# Altium footprint library PCB.PCBLIB: 320 footprints (part 19 of 20)
Each footprint in its own frame and in the unit in brackets; x right, y up, seen from the top. Pads: shape width x height; smd on the part's side, far side on the other; paste and mask are expansions set on the pad; w line width, h text height; cw(c..) or ccw(c..) is an arc to the next point about the centre after c.
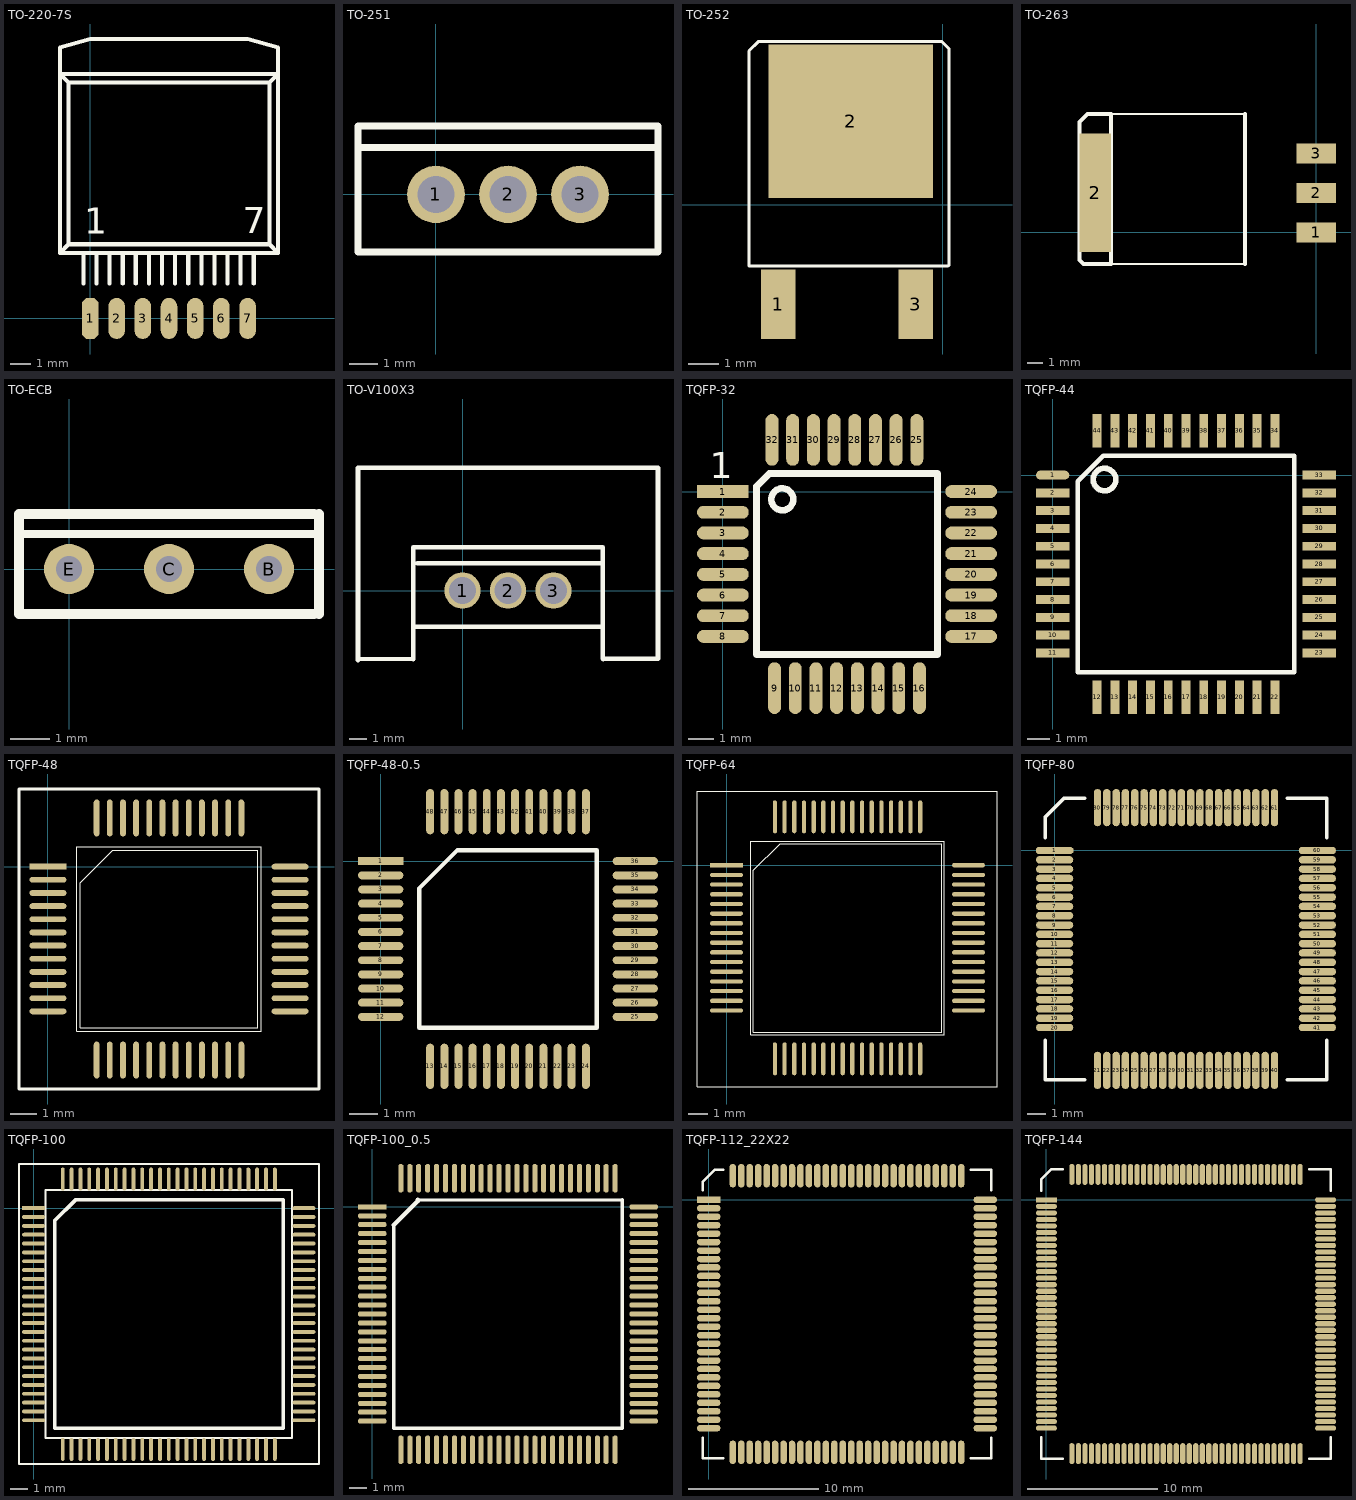
[diagram p18: the footprints below, top view; thin cyan lines are the x and y axes]

## TO-220-7S [mil]
pads (7):
  oct 31.67x78.33 smd: 1(0,0)
  oval 31.67x78.33 smd: 2(50,0) 3(100,0) 4(150,0) 5(200,0) 6(250,0) 7(300,0)
TopOverlay:
  lines w7.87: -13.33,66.93 -13.33,125 ; 11.67,66.93 11.67,125 ; 36.67,66.93 36.67,125 ; 61.67,66.93 61.67,125 ; 86.67,66.93 86.67,125 ; 111.67,66.93 111.67,125 ; 136.67,66.93 136.67,125 ; 161.67,66.93 161.67,125 ; 186.67,66.93 186.67,125 ; 211.67,66.93 211.67,125 ; 236.67,66.93 236.67,125 ; 261.67,66.93 261.67,125 ; 286.67,66.93 286.67,125 ; 311.67,66.93 311.67,125 ; -58.33,125 -41.67,141.67 ; -58.33,125 -58.33,466.67 ; -58.33,125 358.33,125 ; -58.33,466.67 -41.67,450 ; -58.33,466.67 -58.33,516.67 0,533.33 300,533.33 358.33,516.67 358.33,466.67 ; -58.33,466.67 358.33,466.67 ; -41.67,141.67 341.67,141.67 ; -41.67,141.67 -41.67,450 ; -41.67,450 341.67,450 ; 341.67,141.67 358.33,125 ; 341.67,141.67 341.67,450 ; 341.67,450 358.33,466.67 ; 358.33,125 358.33,466.67
  text "7" at 290.27,162.98 h50
  text "1" at -11.5,161.9 h50

## TO-251 [mil]
pads (3):
  round 80 hole 51.18: 1(0,0) 2(100,0) 3(200,0)
TopOverlay:
  lines w10: -103.33,65 305,65 ; -108.33,-80 308.33,-80 308.33,95 -108.33,95 -108.33,-80

## TO-252 [mil]
pads (3):
  rect 45x90.55 smd: 1(-215,-130) 3(-35,-130)
  rect 215x200 smd: 2(-120,109)
TopOverlay:
  lines w4: -253,-80 7,-80 8,-79 8,195 8,204 -1,213 -241,213 -253,201 -253,199 -253,-80

## TO-263 [mil]
pads (4):
  rect 100x50 smd: 1(0,0) 2(0,100) 3(0,200)
  rect 80x300 smd: 2(-560,100)
TopOverlay:
  lines w6: -520,-80 -180,-80 ; -520,300 -180,300
  lines w10: -180,-80 -180,300 ; -600,-70 -590,-80 -520,-80 -520,300 -580,300 -600,280 -600,-60 -600,-70

## TO-ECB [mil]
pads (3):
  round 50 hole 26: B(200,0) C(100,0) E(0,0)
TopOverlay:
  lines w8: -50,35 245,35
  lines w10: -50,-45 -50,55 ; -48.33,-45 245,-45 ; -48.33,55 245,55 ; 250,-45 250,55

## TO-V100X3 [mil]
pads (3):
  round 80 hole 60: 1(0,0) 2(100,0) 3(200,0)
TopOverlay:
  lines w10: -230,-153.33 -230,270 430,270 430,-150 308.33,-150 ; -230,-150 -108.33,-151.67 -108.33,-80 ; -100,60 308.33,60 ; 310,-151.67 308.33,-150 ; -108.33,-80 -108.33,95 308.33,95 308.33,-80 ; -108.33,-80 308.33,-80 ; 308.33,-150 308.33,-80

## TQFP-32 [mm]
pads (32):
  rect 2x0.5 smd: 1(0,0)
  oval 2x0.5 smd: 2(0,-0.8) 3(0,-1.6) 4(0,-2.4) 5(0,-3.2) 6(0,-4) 7(0,-4.8) 8(0,-5.6) 17(9.6,-5.6) 18(9.6,-4.8) 19(9.6,-4) 20(9.6,-3.2) 21(9.6,-2.4) 22(9.6,-1.6) 23(9.6,-0.8) 24(9.6,0)
  oval 0.5x2 smd: 9(2,-7.6) 10(2.8,-7.6) 11(3.6,-7.6) 12(4.4,-7.6) 13(5.2,-7.6) 14(6,-7.6) 15(6.8,-7.6) 16(7.6,-7.6) 25(7.5,2) 26(6.7,2) 27(5.9,2) 28(5.1,2) 29(4.3,2) 30(3.5,2) 31(2.7,2) 32(1.9,2)
TopOverlay:
  circle w0.254: c2.3,-0.3 r0.424
  lines w0.254: 1.3,-6.3 8.3,-6.3 8.3,0.7 1.8,0.7 1.3,0.2 1.3,-6.3
  text "1" at -0.508,0.508 h1.02

## TQFP-44 [mm]
pads (44):
  oval 1.5x0.4 smd: 1(0,0)
  rect 1.5x0.4 smd: 2(0,-0.8) 3(0,-1.6) 4(0,-2.4) 5(0,-3.2) 6(0,-4) 7(0,-4.8) 8(0,-5.6) 9(0,-6.4) 10(0,-7.2) 11(0,-8) 23(12,-8) 24(12,-7.2) 25(12,-6.4) 26(12,-5.6) 27(12,-4.8) 28(12,-4) 29(12,-3.2) 30(12,-2.4) 31(12,-1.6) 32(12,-0.8) 33(12,0)
  rect 0.4x1.5 smd: 12(2,-10) 13(2.8,-10) 14(3.6,-10) 15(4.4,-10) 16(5.2,-10) 17(6,-10) 18(6.8,-10) 19(7.6,-10) 20(8.4,-10) 21(9.2,-10) 22(10,-10) 34(10,2) 35(9.2,2) 36(8.4,2) 37(7.6,2) 38(6.8,2) 39(6,2) 40(5.2,2) 41(4.4,2) 42(3.6,2) 43(2.8,2) 44(2,2)
TopOverlay:
  circle w0.254: c2.332,-0.2 r0.508
  lines w0.2: 1.135,-8.865 10.865,-8.865 10.865,0.865 2.27,0.865 1.135,-0.27 1.135,-8.865

## TQFP-48 [mm]
pads (48):
  rect 1.4x0.22 smd: 1(0,0)
  oval 1.4x0.22 smd: 2(0,-0.5) 3(0,-1) 4(0,-1.5) 5(0,-2) 6(0,-2.5) 7(0,-3) 8(0,-3.5) 9(0,-4) 10(0,-4.5) 11(0,-5) 12(0,-5.5) 25(9.2,-5.5) 26(9.2,-5) 27(9.2,-4.5) 28(9.2,-4) 29(9.2,-3.5) 30(9.2,-3) 31(9.2,-2.5) 32(9.2,-2) 33(9.2,-1.5) 34(9.2,-1) 35(9.2,-0.5) 36(9.2,0)
  oval 0.22x1.4 smd: 13(1.85,-7.35) 14(2.35,-7.35) 15(2.85,-7.35) 16(3.35,-7.35) 17(3.85,-7.35) 18(4.35,-7.35) 19(4.85,-7.35) 20(5.35,-7.35) 21(5.85,-7.35) 22(6.35,-7.35) 23(6.85,-7.35) 24(7.35,-7.35) 37(7.35,1.85) 38(6.85,1.85) 39(6.35,1.85) 40(5.85,1.85) 41(5.35,1.85) 42(4.85,1.85) 43(4.35,1.85) 44(3.85,1.85) 45(3.35,1.85) 46(2.85,1.85) 47(2.35,1.85) 48(1.85,1.85)
TopOverlay:
  lines w0.025: 1.1,-6.25 8.1,-6.25 8.1,0.75 1.1,0.75 1.1,0.675 1.1,-2.75 1.1,-6.25 ; 1.235,-6.115 1.235,-0.62 2.47,0.615 7.965,0.615 7.965,-6.115 1.235,-6.115
  lines w0.102: -1.1,-8.45 -1.1,2.95 10.3,2.95 10.3,-8.45 -1.1,-8.45

## TQFP-48-0.5 [mm]
pads (48):
  rect 1.6x0.28 smd: 1(0,0)
  oval 1.6x0.28 smd: 2(0,-0.5) 3(0,-1) 4(0,-1.5) 5(0,-2) 6(0,-2.5) 7(0,-3) 8(0,-3.5) 9(0,-4) 10(0,-4.5) 11(0,-5) 12(0,-5.5) 25(9,-5.5) 26(9,-5) 27(9,-4.5) 28(9,-4) 29(9,-3.5) 30(9,-3) 31(9,-2.5) 32(9,-2) 33(9,-1.5) 34(9,-1) 35(9,-0.5) 36(9,0)
  oval 0.28x1.6 smd: 13(1.75,-7.25) 14(2.25,-7.25) 15(2.75,-7.25) 16(3.25,-7.25) 17(3.75,-7.25) 18(4.25,-7.25) 19(4.75,-7.25) 20(5.25,-7.25) 21(5.75,-7.25) 22(6.25,-7.25) 23(6.75,-7.25) 24(7.25,-7.25) 37(7.25,1.75) 38(6.75,1.75) 39(6.25,1.75) 40(5.75,1.75) 41(5.25,1.75) 42(4.75,1.75) 43(4.25,1.75) 44(3.75,1.75) 45(3.25,1.75) 46(2.75,1.75) 47(2.25,1.75) 48(1.75,1.75)
TopOverlay:
  lines w0.15: 1.36,-5.89 7.64,-5.89 7.64,0.39 2.72,0.39 1.36,-0.97 1.36,-5.89

## TQFP-64 [mm]
pads (64):
  rect 1.7x0.22 smd: 1(0,0)
  oval 1.7x0.22 smd: 2(0,-0.5) 3(0,-1) 4(0,-1.5) 5(0,-2) 6(0,-2.5) 7(0,-3) 8(0,-3.5) 9(0,-4) 10(0,-4.5) 11(0,-5) 12(0,-5.5) 13(0,-6) 14(0,-6.5) 15(0,-7) 16(0,-7.5) 33(12.5,-7.5) 34(12.5,-7) 35(12.5,-6.5) 36(12.5,-6) 37(12.5,-5.5) 38(12.5,-5) 39(12.5,-4.5) 40(12.5,-4) 41(12.5,-3.5) 42(12.5,-3) 43(12.5,-2.5) 44(12.5,-2) 45(12.5,-1.5) 46(12.5,-1) 47(12.5,-0.5) 48(12.5,0)
  oval 0.22x1.7 smd: 17(2.5,-10) 18(3,-10) 19(3.5,-10) 20(4,-10) 21(4.5,-10) 22(5,-10) 23(5.5,-10) 24(6,-10) 25(6.5,-10) 26(7,-10) 27(7.5,-10) 28(8,-10) 29(8.5,-10) 30(9,-10) 31(9.5,-10) 32(10,-10) 49(10,2.5) 50(9.5,2.5) 51(9,2.5) 52(8.5,2.5) 53(8,2.5) 54(7.5,2.5) 55(7,2.5) 56(6.5,2.5) 57(6,2.5) 58(5.5,2.5) 59(5,2.5) 60(4.5,2.5) 61(4,2.5) 62(3.5,2.5) 63(3,2.5) 64(2.5,2.5)
TopOverlay:
  lines w0.025: -1.524,-11.43 -1.524,3.81 13.97,3.81 13.97,-11.43 -1.524,-11.43 ; 1.25,-8.75 11.25,-8.75 11.25,1.25 1.25,1.25 1.25,-3.75 1.25,-8.75 ; 1.385,-8.615 11.115,-8.615 11.115,1.115 2.77,1.115 1.385,-0.27 1.385,-8.615

## TQFP-80 [mm]
pads (80):
  oct 2x0.4 smd: 1(0,0)
  oval 2x0.4 smd: 2(0,-0.5) 3(0,-1) 4(0,-1.5) 5(0,-2) 6(0,-2.5) 7(0,-3) 8(0,-3.5) 9(0,-4) 10(0,-4.5) 11(0,-5) 12(0,-5.5) 13(0,-6) 14(0,-6.5) 15(0,-7) 16(0,-7.5) 17(0,-8) 18(0,-8.5) 19(0,-9) 20(0,-9.5) 41(14.1,-9.5) 42(14.1,-9) 43(14.1,-8.5) 44(14.1,-8) 45(14.1,-7.5) 46(14.1,-7) 47(14.1,-6.5) 48(14.1,-6) 49(14.1,-5.5) 50(14.1,-5) 51(14.1,-4.5) 52(14.1,-4) 53(14.1,-3.5) 54(14.1,-3) 55(14.1,-2.5) 56(14.1,-2) 57(14.1,-1.5) 58(14.1,-1) 59(14.1,-0.5) 60(14.1,0)
  oval 0.4x2 smd: 21(2.3,-11.8) 22(2.8,-11.8) 23(3.3,-11.8) 24(3.8,-11.8) 25(4.3,-11.8) 26(4.8,-11.8) 27(5.3,-11.8) 28(5.8,-11.8) 29(6.3,-11.8) 30(6.8,-11.8) 31(7.3,-11.8) 32(7.8,-11.8) 33(8.3,-11.8) 34(8.8,-11.8) 35(9.3,-11.8) 36(9.8,-11.8) 37(10.3,-11.8) 38(10.8,-11.8) 39(11.3,-11.8) 40(11.8,-11.8) 61(11.8,2.3) 62(11.3,2.3) 63(10.8,2.3) 64(10.3,2.3) 65(9.8,2.3) 66(9.3,2.3) 67(8.8,2.3) 68(8.3,2.3) 69(7.8,2.3) 70(7.3,2.3) 71(6.8,2.3) 72(6.3,2.3) 73(5.8,2.3) 74(5.3,2.3) 75(4.8,2.3) 76(4.3,2.3) 77(3.8,2.3) 78(3.3,2.3) 79(2.8,2.3) 80(2.3,2.3)
TopOverlay:
  lines w0.2: -0.5,-10.2 -0.5,-12.3 1.6,-12.3 ; -0.5,0.7 -0.5,1.8 0.5,2.8 1.6,2.8 ; 12.5,-12.3 14.6,-12.3 14.6,-10.2 ; 12.5,2.8 14.6,2.8 14.6,0.7

## TQFP-100 [mm]
pads (100):
  rect 1.3x0.22 smd: 1(0,0)
  oval 1.3x0.22 smd: 2(0,-0.5) 3(0,-1) 4(0,-1.5) 5(0,-2) 6(0,-2.5) 7(0,-3) 8(0,-3.5) 9(0,-4) 10(0,-4.5) 11(0,-5) 12(0,-5.5) 13(0,-6) 14(0,-6.5) 15(0,-7) 16(0,-7.5) 17(0,-8) 18(0,-8.5) 19(0,-9) 20(0,-9.5) 21(0,-10) 22(0,-10.5) 23(0,-11) 24(0,-11.5) 25(0,-12) 51(15.3,-12) 52(15.3,-11.5) 53(15.3,-11) 54(15.3,-10.5) 55(15.3,-10) 56(15.3,-9.5) 57(15.3,-9) 58(15.3,-8.5) 59(15.3,-8) 60(15.3,-7.5) 61(15.3,-7) 62(15.3,-6.5) 63(15.3,-6) 64(15.3,-5.5) 65(15.3,-5) 66(15.3,-4.5) 67(15.3,-4) 68(15.3,-3.5) 69(15.3,-3) 70(15.3,-2.5) 71(15.3,-2) 72(15.3,-1.5) 73(15.3,-1) 74(15.3,-0.5) 75(15.3,0)
  oval 0.22x1.3 smd: 26(1.65,-13.65) 27(2.15,-13.65) 28(2.65,-13.65) 29(3.15,-13.65) 30(3.65,-13.65) 31(4.15,-13.65) 32(4.65,-13.65) 33(5.15,-13.65) 34(5.65,-13.65) 35(6.15,-13.65) 36(6.65,-13.65) 37(7.15,-13.65) 38(7.65,-13.65) 39(8.15,-13.65) 40(8.65,-13.65) 41(9.15,-13.65) 42(9.65,-13.65) 43(10.15,-13.65) 44(10.65,-13.65) 45(11.15,-13.65) 46(11.65,-13.65) 47(12.15,-13.65) 48(12.65,-13.65) 49(13.15,-13.65) 50(13.65,-13.65) 76(13.65,1.65) 77(13.15,1.65) 78(12.65,1.65) 79(12.15,1.65) 80(11.65,1.65) 81(11.15,1.65) 82(10.65,1.65) 83(10.15,1.65) 84(9.65,1.65) 85(9.15,1.65) 86(8.65,1.65) 87(8.15,1.65) 88(7.65,1.65) 89(7.15,1.65) 90(6.65,1.65) 91(6.15,1.65) 92(5.65,1.65) 93(5.15,1.65) 94(4.65,1.65) 95(4.15,1.65) 96(3.65,1.65) 97(3.15,1.65) 98(2.65,1.65) 99(2.15,1.65) 100(1.65,1.65)
TopOverlay:
  lines w0.102: -0.825,-14.475 16.15,-14.475 16.15,2.5 -0.825,2.5 -0.825,-14.475 ; 0.675,-13 14.625,-13 14.625,1.025 0.675,1.025 0.675,-13
  lines w0.2: 1.185,-12.465 1.185,-0.72 2.37,0.465 14.115,0.465 14.115,-12.465 1.185,-12.465

## TQFP-100_0.5 [mil]
pads (100):
  rect 63x11 smd: 1(0,0)
  oct 63x11 smd: 2(0,-19.68) 3(0,-39.37) 4(0,-59.05) 5(0,-78.74) 6(0,-98.42) 7(0,-118.11) 8(0,-137.79) 9(0,-157.48) 10(0,-177.16) 11(0,-196.85) 12(0,-216.53) 13(0,-236.22) 14(0,-255.91) 15(0,-275.59) 16(0,-295.28) 17(0,-314.96) 18(0,-334.65) 19(0,-354.33) 20(0,-374.02) 21(0,-393.7) 22(0,-413.39) 23(0,-433.07) 24(0,-452.76) 25(0,-472.44) 51(598.42,-472.44) 52(598.42,-452.76) 53(598.42,-433.07) 54(598.42,-413.39) 55(598.42,-393.7) 56(598.42,-374.02) 57(598.42,-354.33) 58(598.42,-334.65) 59(598.42,-314.96) 60(598.42,-295.28) 61(598.42,-275.59) 62(598.42,-255.91) 63(598.42,-236.22) 64(598.42,-216.53) 65(598.42,-196.85) 66(598.42,-177.16) 67(598.42,-157.48) 68(598.42,-137.79) 69(598.42,-118.11) 70(598.42,-98.42) 71(598.42,-78.74) 72(598.42,-59.05) 73(598.42,-39.37) 74(598.42,-19.68) 75(598.42,0)
  oct 11x63 smd: 26(62.99,-535.43) 27(82.68,-535.43) 28(102.36,-535.43) 29(122.05,-535.43) 30(141.73,-535.43) 31(161.42,-535.43) 32(181.1,-535.43) 33(200.79,-535.43) 34(220.47,-535.43) 35(240.16,-535.43) 36(259.84,-535.43) 37(279.53,-535.43) 38(299.21,-535.43) 39(318.9,-535.43) 40(338.58,-535.43) 41(358.27,-535.43) 42(377.95,-535.43) 43(397.64,-535.43) 44(417.32,-535.43) 45(437.01,-535.43) 46(456.69,-535.43) 47(476.38,-535.43) 48(496.06,-535.43) 49(515.75,-535.43) 50(535.43,-535.43) 76(535.43,62.99) 77(515.75,62.99) 78(496.06,62.99) 79(476.38,62.99) 80(456.69,62.99) 81(437.01,62.99) 82(417.32,62.99) 83(397.64,62.99) 84(377.95,62.99) 85(358.27,62.99) 86(338.58,62.99) 87(318.9,62.99) 88(299.21,62.99) 89(279.53,62.99) 90(259.84,62.99) 91(240.16,62.99) 92(220.47,62.99) 93(200.79,62.99) 94(181.1,62.99) 95(161.42,62.99) 96(141.73,62.99) 97(122.05,62.99) 98(102.36,62.99) 99(82.68,62.99) 100(62.99,62.99)
TopOverlay:
  lines w7.87: 47.24,-40 47.24,-488.19 551.18,-488.19 551.18,15.75 ; 100,15.75 548.94,15
  lines w10: 47.24,-40 100,12.76 100,15.75

## TQFP-112_22X22 [mm]
pads (112):
  rect 1.8x0.5 smd: 1(0,0)
  oval 1.8x0.5 smd: 2(0,-0.65) 3(0,-1.3) 4(0,-1.95) 5(0,-2.6) 6(0,-3.25) 7(0,-3.9) 8(0,-4.55) 9(0,-5.2) 10(0,-5.85) 11(0,-6.5) 12(0,-7.15) 13(0,-7.8) 14(0,-8.45) 15(0,-9.1) 16(0,-9.75) 17(0,-10.4) 18(0,-11.05) 19(0,-11.7) 20(0,-12.35) 21(0,-13) 22(0,-13.65) 23(0,-14.3) 24(0,-14.95) 25(0,-15.6) 26(0,-16.25) 27(0,-16.9) 28(0,-17.55) 57(21.25,-17.55) 58(21.25,-16.9) 59(21.25,-16.25) 60(21.25,-15.6) 61(21.25,-14.95) 62(21.25,-14.3) 63(21.25,-13.65) 64(21.25,-13) 65(21.25,-12.35) 66(21.25,-11.7) 67(21.25,-11.05) 68(21.25,-10.4) 69(21.25,-9.75) 70(21.25,-9.1) 71(21.25,-8.45) 72(21.25,-7.8) 73(21.25,-7.15) 74(21.25,-6.5) 75(21.25,-5.85) 76(21.25,-5.2) 77(21.25,-4.55) 78(21.25,-3.9) 79(21.25,-3.25) 80(21.25,-2.6) 81(21.25,-1.95) 82(21.25,-1.3) 83(21.25,-0.65) 84(21.25,0)
  oval 0.5x1.8 smd: 29(1.85,-19.4) 30(2.5,-19.4) 31(3.15,-19.4) 32(3.8,-19.4) 33(4.45,-19.4) 34(5.1,-19.4) 35(5.75,-19.4) 36(6.4,-19.4) 37(7.05,-19.4) 38(7.7,-19.4) 39(8.35,-19.4) 40(9,-19.4) 41(9.65,-19.4) 42(10.3,-19.4) 43(10.95,-19.4) 44(11.6,-19.4) 45(12.25,-19.4) 46(12.9,-19.4) 47(13.55,-19.4) 48(14.2,-19.4) 49(14.85,-19.4) 50(15.5,-19.4) 51(16.15,-19.4) 52(16.8,-19.4) 53(17.45,-19.4) 54(18.1,-19.4) 55(18.75,-19.4) 56(19.4,-19.4) 85(19.4,1.85) 86(18.75,1.85) 87(18.1,1.85) 88(17.45,1.85) 89(16.8,1.85) 90(16.15,1.85) 91(15.5,1.85) 92(14.85,1.85) 93(14.2,1.85) 94(13.55,1.85) 95(12.9,1.85) 96(12.25,1.85) 97(11.6,1.85) 98(10.95,1.85) 99(10.3,1.85) 100(9.65,1.85) 101(9,1.85) 102(8.35,1.85) 103(7.7,1.85) 104(7.05,1.85) 105(6.4,1.85) 106(5.75,1.85) 107(5.1,1.85) 108(4.45,1.85) 109(3.8,1.85) 110(3.15,1.85) 111(2.5,1.85) 112(1.85,1.85)
TopOverlay:
  lines w0.2: -0.45,-18.3 -0.45,-19.85 1.1,-19.85 ; -0.45,0.75 -0.45,1.4 0.45,2.3 1.1,2.3 ; 20.15,-19.85 21.7,-19.85 21.7,-18.3 ; 20.15,2.3 21.7,2.3 21.7,0.75

## TQFP-144 [mm]
pads (144):
  rect 1.6x0.4 smd: 1(0,0)
  oval 1.6x0.4 smd: 2(0,-0.5) 3(0,-1) 4(0,-1.5) 5(0,-2) 6(0,-2.5) 7(0,-3) 8(0,-3.5) 9(0,-4) 10(0,-4.5) 11(0,-5) 12(0,-5.5) 13(0,-6) 14(0,-6.5) 15(0,-7) 16(0,-7.5) 17(0,-8) 18(0,-8.5) 19(0,-9) 20(0,-9.5) 21(0,-10) 22(0,-10.5) 23(0,-11) 24(0,-11.5) 25(0,-12) 26(0,-12.5) 27(0,-13) 28(0,-13.5) 29(0,-14) 30(0,-14.5) 31(0,-15) 32(0,-15.5) 33(0,-16) 34(0,-16.5) 35(0,-17) 36(0,-17.5) 73(21.4,-17.5) 74(21.4,-17) 75(21.4,-16.5) 76(21.4,-16) 77(21.4,-15.5) 78(21.4,-15) 79(21.4,-14.5) 80(21.4,-14) 81(21.4,-13.5) 82(21.4,-13) 83(21.4,-12.5) 84(21.4,-12) 85(21.4,-11.5) 86(21.4,-11) 87(21.4,-10.5) 88(21.4,-10) 89(21.4,-9.5) 90(21.4,-9) 91(21.4,-8.5) 92(21.4,-8) 93(21.4,-7.5) 94(21.4,-7) 95(21.4,-6.5) 96(21.4,-6) 97(21.4,-5.5) 98(21.4,-5) 99(21.4,-4.5) 100(21.4,-4) 101(21.4,-3.5) 102(21.4,-3) 103(21.4,-2.5) 104(21.4,-2) 105(21.4,-1.5) 106(21.4,-1) 107(21.4,-0.5) 108(21.4,0)
  oval 0.4x1.6 smd: 37(1.95,-19.45) 38(2.45,-19.45) 39(2.95,-19.45) 40(3.45,-19.45) 41(3.95,-19.45) 42(4.45,-19.45) 43(4.95,-19.45) 44(5.45,-19.45) 45(5.95,-19.45) 46(6.45,-19.45) 47(6.95,-19.45) 48(7.45,-19.45) 49(7.95,-19.45) 50(8.45,-19.45) 51(8.95,-19.45) 52(9.45,-19.45) 53(9.95,-19.45) 54(10.45,-19.45) 55(10.95,-19.45) 56(11.45,-19.45) 57(11.95,-19.45) 58(12.45,-19.45) 59(12.95,-19.45) 60(13.45,-19.45) 61(13.95,-19.45) 62(14.45,-19.45) 63(14.95,-19.45) 64(15.45,-19.45) 65(15.95,-19.45) 66(16.45,-19.45) 67(16.95,-19.45) 68(17.45,-19.45) 69(17.95,-19.45) 70(18.45,-19.45) 71(18.95,-19.45) 72(19.45,-19.45) 109(19.45,1.95) 110(18.95,1.95) 111(18.45,1.95) 112(17.95,1.95) 113(17.45,1.95) 114(16.95,1.95) 115(16.45,1.95) 116(15.95,1.95) 117(15.45,1.95) 118(14.95,1.95) 119(14.45,1.95) 120(13.95,1.95) 121(13.45,1.95) 122(12.95,1.95) 123(12.45,1.95) 124(11.95,1.95) 125(11.45,1.95) 126(10.95,1.95) 127(10.45,1.95) 128(9.95,1.95) 129(9.45,1.95) 130(8.95,1.95) 131(8.45,1.95) 132(7.95,1.95) 133(7.45,1.95) 134(6.95,1.95) 135(6.45,1.95) 136(5.95,1.95) 137(5.45,1.95) 138(4.95,1.95) 139(4.45,1.95) 140(3.95,1.95) 141(3.45,1.95) 142(2.95,1.95) 143(2.45,1.95) 144(1.95,1.95)
TopOverlay:
  lines w0.2: -0.4,-18.2 -0.4,-19.85 1.25,-19.85 ; -0.4,0.7 -0.4,1.55 0.4,2.35 1.25,2.35 ; 20.15,-19.85 21.8,-19.85 21.8,-18.2 ; 20.15,2.35 21.8,2.35 21.8,0.7